# Altium footprint library PushButton.PcbLib: 1 footprints
Each footprint in its own frame and in the unit in brackets; x right, y up, seen from the top. Pads: shape width x height; smd on the part's side, far side on the other; paste and mask are expansions set on the pad; w line width, h text height; cw(c..) or ccw(c..) is an arc to the next point about the centre after c.
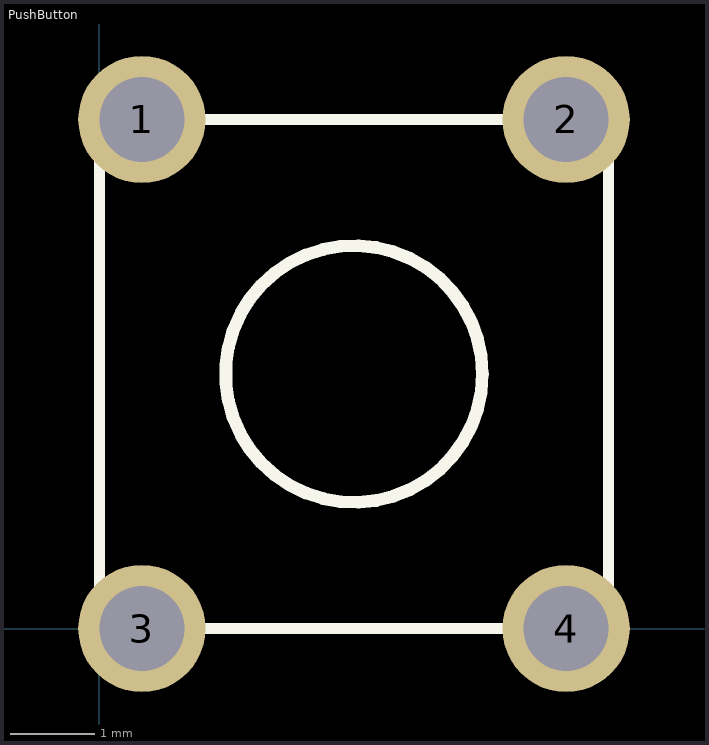
[diagram p0: the footprint, top view; thin cyan lines are the x and y axes]

## PushButton [mm]
pads (4):
  round 1.5 hole 1: 1(0.5,6) 2(5.5,6) 3(0.5,0) 4(5.5,0)
Top Overlay:
  circle w0.15: c3,3 r1.513
  lines w0.127: 0,0 0,6 6,6 6,0 0,0